# Altium footprint library NETTIE_150X300UM.PcbLib: 1 footprints
Each footprint in its own frame and in the unit in brackets; x right, y up, seen from the top. Pads: shape width x height; smd on the part's side, far side on the other; paste and mask are expansions set on the pad; w line width, h text height; cw(c..) or ccw(c..) is an arc to the next point about the centre after c.
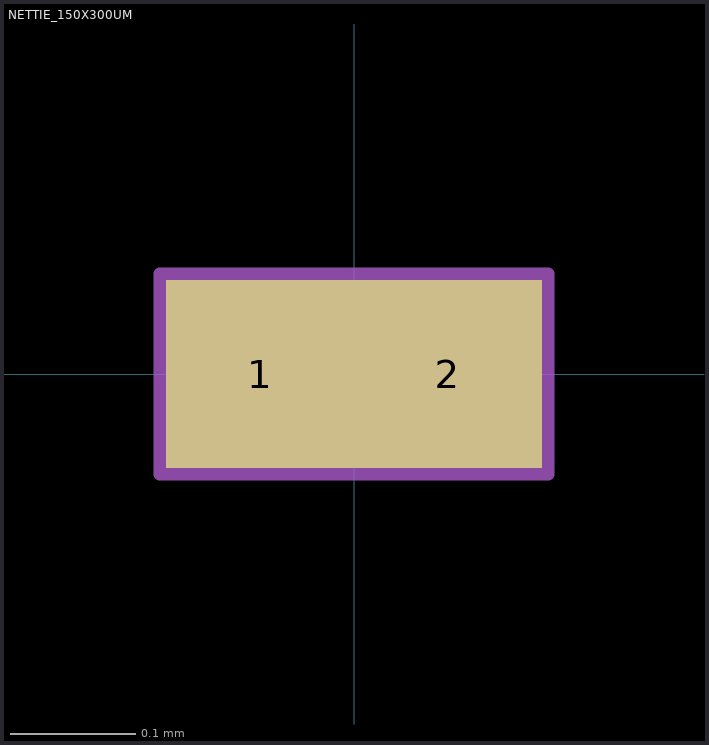
[diagram p0: the footprint, top view; thin cyan lines are the x and y axes]

## NETTIE_150X300UM [mm] "NETTIE_150X300UM"
pads (2):
  rect 0.15x0.15 smd mask+0.102: 1(-0.075,0) 2(0.075,0)
Top Courtyard (Mech15):
  lines w0.01: -0.05,0 0.05,0 ; 0,-0.05 0,0.05 ; -0.155,-0.08 0.155,-0.08 0.155,0.08 -0.155,0.08 -0.155,-0.08